# EAGLE library part SFW18R-2STE1LF (library FCI_By_element14_Batch_1)
FFC/FPC CONNECTOR, RECEPTACLE 18POS 1ROW
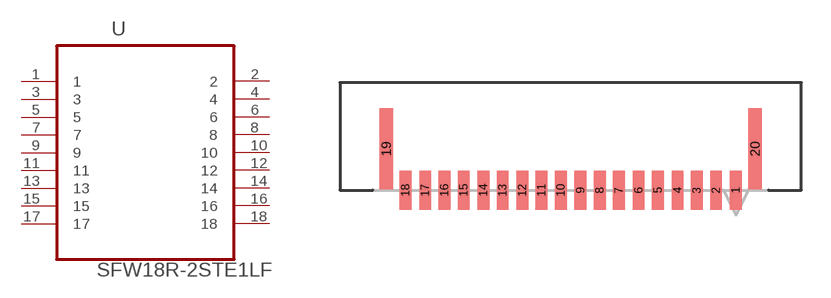
[diagram p70: symbol with the pads of FCI_SFW18R-2STE1LF; footprint FCI_SFW18R-2STE1LF]

Designator prefix U

## SFW18R-2STE1LF (MPN: SFW18R-2STE1LF; OC_FARNELL: 1835597; OC_NEWARK: 62K5611; PACKAGE: CONNECTOR-18POS; SUPPLIER: FCI)  [FCI_SFW18R-2STE1LF]
1  1  pas
2  2  pas
3  3  pas
4  4  pas
5  5  pas
6  6  pas
7  7  pas
8  8  pas
9  9  pas
10  10  pas
11  11  pas
12  12  pas
13  13  pas
14  14  pas
15  15  pas
16  16  pas
17  17  pas
18  18  pas

## Footprint FCI_SFW18R-2STE1LF (pad centres in mm)
smd 0.61 x 2.007: 1 8.509,2.743; 2 7.493,2.743; 3 6.502,2.743; 4 5.512,2.743; 5 4.496,2.743; 6 3.505,2.743; 7 2.489,2.743; 8 1.499,2.743; 9 0.508,2.743; 10 -0.508,2.743; 11 -1.499,2.743; 12 -2.489,2.743; 13 -3.505,2.743; 14 -4.496,2.743; 15 -5.512,2.743; 16 -6.502,2.743; 17 -7.493,2.743; 18 -8.509,2.743
smd 0.711 x 4.191: 19 -9.5,4.877; 20 9.5,4.877